# Altium footprint library shared_lib.PcbLib: 46 footprints (part 3 of 3)
Each footprint in its own frame and in the unit in brackets; x right, y up, seen from the top. Pads: shape width x height; smd on the part's side, far side on the other; paste and mask are expansions set on the pad; w line width, h text height; cw(c..) or ccw(c..) is an arc to the next point about the centre after c.
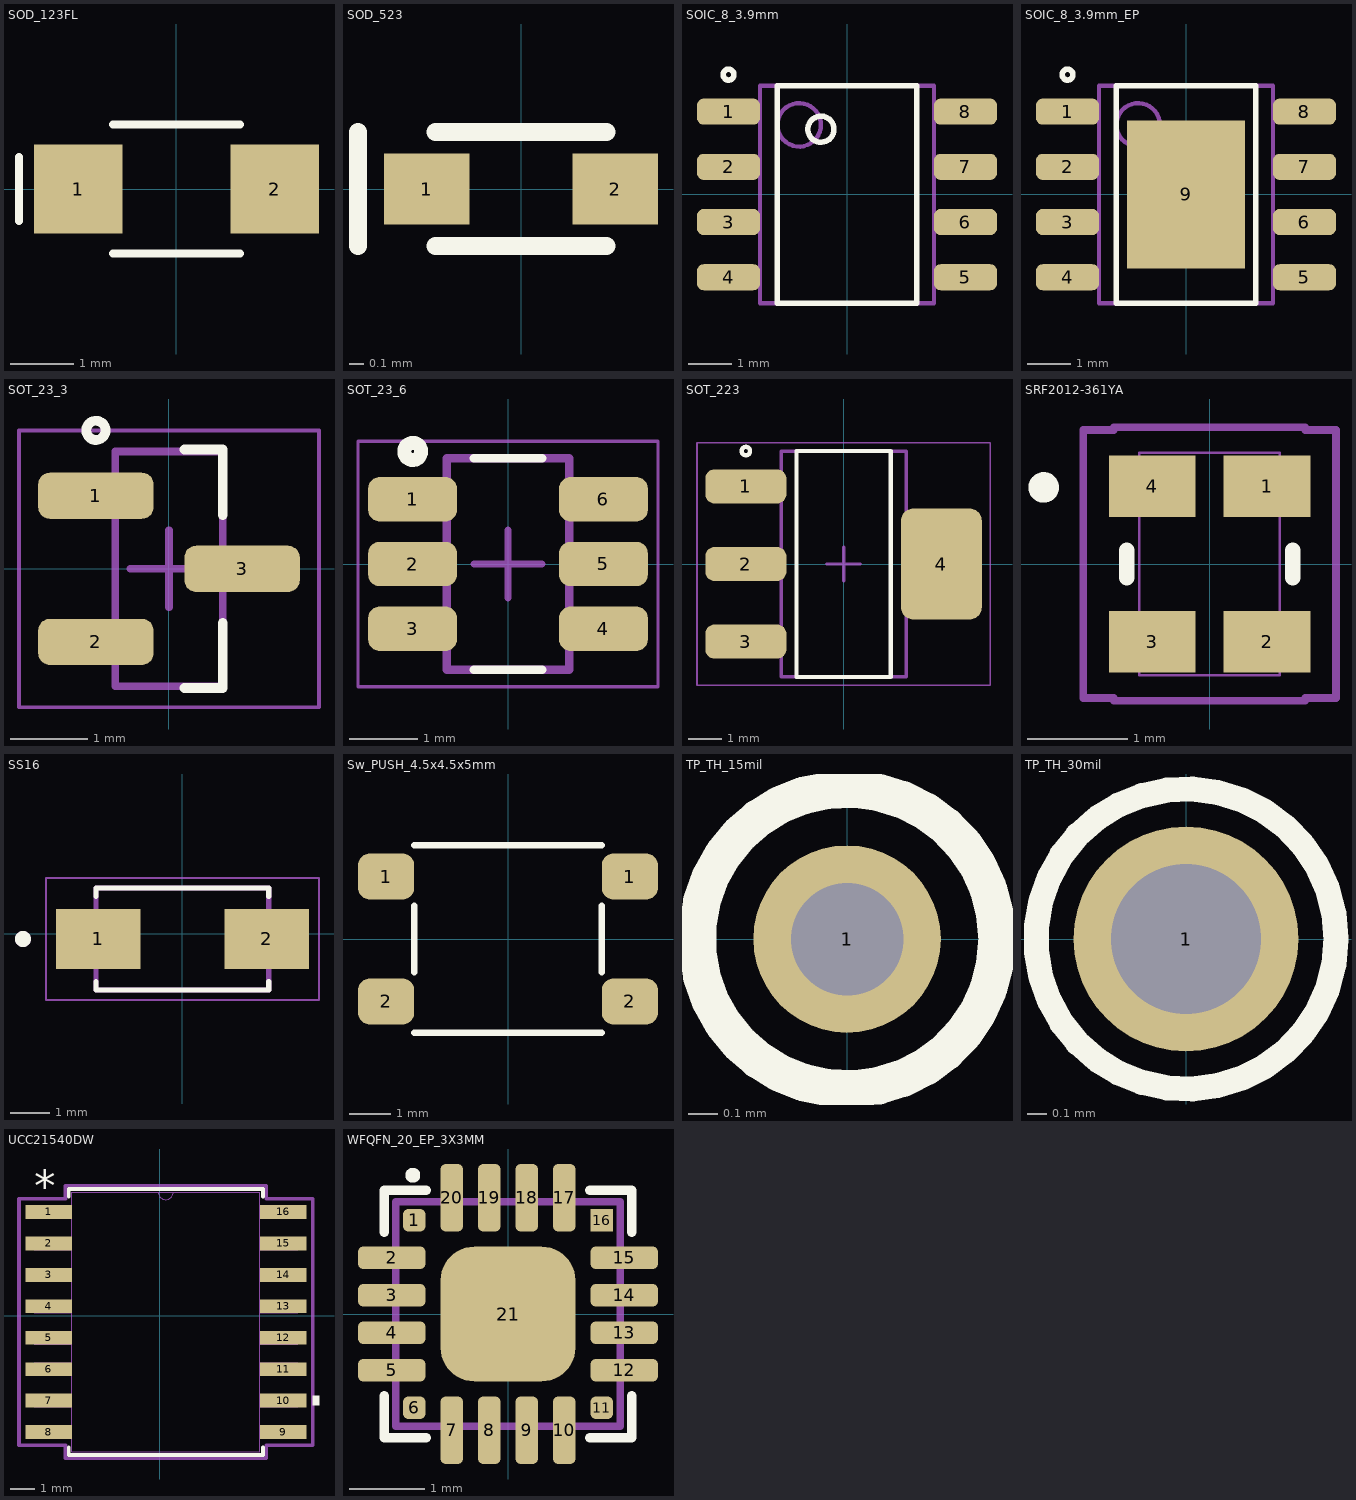
[diagram p2: the footprints below, top view; thin cyan lines are the x and y axes]

## SOD_123FL [mm]
pads (2):
  rect 1.4x1.4 smd: 1(-1.55,0) 2(1.55,0)
Top Overlay:
  lines w0.127: -2.486,-0.508 -2.486,0.508 ; -1,-1.016 1,-1.016 ; -1,1.016 1,1.016
3D body "SOD-123F_LTF.step": height 1.09, standoff 0, extent -1.956,-1.003 1.956,1.003

## SOD_523 [mm]
pads (2):
  rect 0.6x0.5 smd: 1(-0.66,0) 2(0.66,0)
Top Overlay:
  lines w0.127: -1.143,-0.4 -1.143,0.4 ; -0.6,-0.4 0.6,-0.4 ; -0.6,0.4 0.6,0.4
3D body: height 0.6, standoff 0, extent -0.6,-0.4 0.6,0.4

## SOIC_8_3.9mm [mm]
pads (8):
  rrect50% 1.45x0.6 smd: 1(-2.725,1.905) 2(-2.725,0.635) 3(-2.725,-0.635) 4(-2.725,-1.905) 5(2.725,-1.905) 6(2.725,-0.635) 7(2.725,0.635) 8(2.725,1.905)
Top Overlay:
  circle w0.127: c-0.6,1.5 r0.3
  circle w0.127: c-2.725,2.755 r0.125
  lines w0.127: -1.6,-2.5 1.6,-2.5 1.6,2.5 -1.6,2.5 -1.6,-2.5
Mechanical 1:
  circle w0.1: c-1.1,1.6 r0.5
  lines w0.1: -2,-2.5 -2,2.5 2,2.5 2,-2.5 -2,-2.5
3D body "SOIC127P600X173-8N.step": height 1.73, standoff 0, extent -3.01,-2.5 3.01,2.5

## SOIC_8_3.9mm_EP [mm]
pads (9):
  rrect50% 1.45x0.6 smd: 1(-2.725,1.905) 2(-2.725,0.635) 3(-2.725,-0.635) 4(-2.725,-1.905) 5(2.725,-1.905) 6(2.725,-0.635) 7(2.725,0.635) 8(2.725,1.905)
  rect 2.71x3.4 smd: 9(0,0)
Top Overlay:
  circle w0.127: c-2.725,2.755 r0.125
  lines w0.127: -1.6,-2.5 -1.6,2.5 1.6,2.5 1.6,-2.5 -1.6,-2.5
Mechanical 1:
  circle w0.1: c-1.1,1.6 r0.5
  lines w0.1: -2,-2.5 2,-2.5 2,2.5 -2,2.5 -2,-2.5
3D body "step_temp.STEP": height 1.7, standoff 0, extent -3,-2.45 3,2.45

## SOT_23_3 [mm]
pads (3):
  rrect50% 1.5x0.6 smd: 1(-0.95,0.95) 2(-0.95,-0.95) 3(0.95,0)
Top Overlay:
  circle w0.127: c-0.95,1.8 r0.125
  lines w0.127: 0.2,-1.55 0.7,-1.55 0.7,-0.7 ; 0.2,1.55 0.7,1.55 0.7,0.7
Mechanical 1:
  lines w0.1: -0.7,-1.525 -0.7,1.525 0.7,1.525 0.7,-1.525 -0.7,-1.525
Mechanical 15:
  lines w0.05: -1.95,-1.8 1.95,-1.8 1.95,1.8 -1.95,1.8 -1.95,-1.8
  lines w0.1: -0.5,0 0.5,0 ; 0,-0.5 0,0.5
3D body: height 1.12, standoff 0.01, extent -0.7,-1.525 0.7,1.525

## SOT_23_6 [mm]
height 1.45
pads (6):
  rrect50% 1.3x0.65 smd: 1(-1.4,0.95) 2(-1.4,0) 3(-1.4,-0.95) 4(1.4,-0.95) 5(1.4,0) 6(1.4,0.95)
Top Overlay:
  circle w0.203: c-1.397,1.651 r0.125
  lines w0.127: -0.5,-1.55 0.5,-1.55 ; -0.5,1.55 0.5,1.55
Mechanical 1:
  lines w0.127: -0.9,-1.55 0.9,-1.55 0.9,1.55 -0.9,1.55 -0.9,-1.55
Mechanical 15:
  lines w0.05: -2.2,-1.8 -2.2,1.8 2.2,1.8 2.2,-1.8 -2.2,-1.8
  lines w0.1: -0.5,0 0.5,0 ; 0,-0.5 0,0.5
3D body "SOT23-6-2.step": height 1.45, standoff 0, extent -1.501,-1.45 1.299,1.45

## SOT_223 [mm]
height 1.45
pads (4):
  rrect50% 2.4x1 smd: 1(-2.9,2.3) 2(-2.9,0) 3(-2.9,-2.3)
  rrect30% 2.4x3.3 smd: 4(2.9,0)
Top Overlay:
  circle w0.127: c-2.9,3.35 r0.125
  lines w0.127: -1.4,-3.35 -1.4,3.35 1.4,3.35 1.4,-3.35 -1.4,-3.35
Mechanical 1:
  lines w0.1: -1.855,-3.35 -1.855,3.35 1.855,3.35 1.855,-3.35 -1.855,-3.35
Mechanical 15:
  lines w0.05: -4.35,-3.6 -4.35,3.6 4.35,3.6 4.35,-3.6 -4.35,-3.6
  lines w0.1: -0.5,0 0.5,0 ; 0,-0.5 0,0.5
3D body: height 1.8, standoff 0.03, extent -1.855,-3.35 1.855,3.35

## SRF2012-361YA [mil]
pads (4):
  rect 34x24 smd paste+0 mask+0: 1(22.5,30.5) 2(22.5,-30.5) 3(-22.5,-30.5) 4(-22.5,30.5)
Top Overlay:
  circle w6: c-65,30 r3
  lines w6: -32.5,-5.4 -32.5,5.4 ; 32.5,-5.4 32.5,5.4
Mechanical 13:
  lines w1: -27.5,-43.5 -27.5,43.5 27.5,43.5 27.5,-43.5 -27.5,-43.5
Mechanical 15:
  lines w3: -49.5,-52.5 -37.5,-52.5 -37.5,-53.5 37.5,-53.5 37.5,-52.5 49.5,-52.5 49.5,52.5 37.5,52.5 37.5,53.5 -37.5,53.5 -37.5,52.5 -49.5,52.5 -49.5,-52.5
3D body "IND_BOURNS_SRF2012A.step": height 55.12, standoff 0, extent -27.52,-43.5 27.52,43.5

## SS16 [mm]
pads (2):
  rect 2.12x1.5 smd: 1(-2.115,-0.127) 2(2.115,-0.127)
Top Overlay:
  circle w0.2: c-4,-0.127 r0.1
  lines w0.127: -2.165,-1.197 -2.165,-1.407 2.165,-1.407 2.165,-1.197 ; -2.165,0.943 -2.165,1.153 2.165,1.153 2.165,0.943
Mechanical 13:
  circle w0.2: c-4,-0.127 r0.1
  lines w0.127: -2.165,-1.407 2.165,-1.407 2.165,1.153 -2.165,1.153 -2.165,-1.407
Mechanical 15:
  lines w0.05: -3.425,-1.657 3.425,-1.657 3.425,1.403 -3.425,1.403 -3.425,-1.657
3D body "step_temp.STEP": height 2.5, standoff 0, extent -2.57,-1.407 2.57,1.153

## Sw_PUSH_4.5x4.5x5mm [mm]
pads (4):
  rrect50% 1.35x1.1 smd: 1(-2.925,1.5) 1(2.925,1.5) 2(-2.925,-1.5) 2(2.925,-1.5)
Top Overlay:
  lines w0.152: -2.25,-2.25 2.25,-2.25 ; -2.25,-0.8 -2.25,0.8 ; -2.25,2.25 2.25,2.25 ; 2.25,-0.8 2.25,0.8
3D body: height 5, standoff 0, extent -1.22,-1.22 1.22,1.22
3D body: height 2.75, standoff 0, extent -2.25,-2.25 2.25,2.25

## TP_TH_15mil [mil]
pads (1):
  round 25 hole 15: 1(0,0)
Top Overlay:
  circle w5: c0,0 r20
Bottom Overlay:
  circle w5: c0,0 r20

## TP_TH_30mil [mil]
pads (1):
  round 45 hole 30: 1(0,0)
Top Overlay:
  circle w5: c0,0 r30
Bottom Overlay:
  circle w5: c0,0 r30

## UCC21540DW [mil]
pads (16):
  rect 74x22 smd paste+0 mask+0: 1(-176.5,165) 2(-176.5,115) 3(-176.5,65) 4(-176.5,15) 5(-176.5,-35) 6(-176.5,-85) 7(-176.5,-135) 8(-176.5,-185) 9(196.5,-185) 10(196.5,-135) 11(196.5,-85) 12(196.5,-35) 13(196.5,15) 14(196.5,65) 15(196.5,115) 16(196.5,165)
Top Overlay:
  region: 243.5,-127.5 253.5,-127.5 253.5,-142.5 243.5,-142.5
  lines w6: -144.5,-209.1 -144.5,-221.5 164.5,-221.5 164.5,-209.1 ; -144.5,189.1 -144.5,201.5 164.5,201.5 164.5,189.1
  text "*" at -199,182 h50
Mechanical 13:
  lines w1: -2,196.5 ccw(c10,196.5) 22,196.5 ; -199.5,-195 -199.5,-175 -139.5,-175 -139.5,-195 -199.5,-195 ; -199.5,-145 -199.5,-125 -139.5,-125 -139.5,-145 -199.5,-145 ; -199.5,-95 -199.5,-75 -139.5,-75 -139.5,-95 -199.5,-95 ; -199.5,-45 -199.5,-25 -139.5,-25 -139.5,-45 -199.5,-45 ; -199.5,5 -199.5,25 -139.5,25 -139.5,5 -199.5,5 ; -199.5,55 -199.5,75 -139.5,75 -139.5,55 -199.5,55 ; -199.5,105 -199.5,125 -139.5,125 -139.5,105 -199.5,105 ; -199.5,155 -199.5,175 -139.5,175 -139.5,155 -199.5,155 ; -139.5,-216.5 159.5,-216.5 159.5,196.5 -139.5,196.5 -139.5,-216.5 ; 159.5,-195 159.5,-175 219.5,-175 219.5,-195 159.5,-195 ; 159.5,-145 159.5,-125 219.5,-125 219.5,-145 159.5,-145 ; 159.5,-95 159.5,-75 219.5,-75 219.5,-95 159.5,-95 ; 159.5,-45 159.5,-25 219.5,-25 219.5,-45 159.5,-45 ; 159.5,5 159.5,25 219.5,25 219.5,5 159.5,5 ; 159.5,55 159.5,75 219.5,75 219.5,55 159.5,55 ; 159.5,105 159.5,125 219.5,125 219.5,105 159.5,105 ; 159.5,155 159.5,175 219.5,175 219.5,155 159.5,155
Mechanical 15:
  lines w6: -223.5,-206 -223.5,186 -149.5,186 -149.5,206.5 169.5,206.5 169.5,186 243.5,186 243.5,-206 169.5,-206 169.5,-226.5 -149.5,-226.5 -149.5,-206 -223.5,-206
3D body "DW16_TEX.step": height 104.09, standoff 0, extent -199.56,-216.32 219.41,196.68

## WFQFN_20_EP_3X3MM [mm]
pads (21):
  rrect50% 0.3x0.3 smd: 1(-1.25,1.25) 6(-1.25,-1.25) 11(1.25,-1.25)
  rrect50% 0.9x0.3 smd: 2(-1.55,0.75) 3(-1.55,0.25) 4(-1.55,-0.25) 5(-1.55,-0.75) 12(1.55,-0.75) 13(1.55,-0.25) 14(1.55,0.25) 15(1.55,0.75)
  rrect50% 0.3x0.9 smd: 7(-0.75,-1.55) 8(-0.25,-1.55) 9(0.25,-1.55) 10(0.75,-1.55) 17(0.75,1.55) 18(0.25,1.55) 19(-0.25,1.55) 20(-0.75,1.55)
  rect 0.3x0.3 smd: 16(1.25,1.25)
  rrect50% 1.8x1.8 smd: 21(0,0)
Top Overlay:
  circle w0.1: c-1.27,1.85 r0.05
  lines w0.127: -1.65,-1.092 -1.65,-1.65 -1.092,-1.65 ; -1.65,1.092 -1.65,1.65 -1.092,1.65 ; 1.092,-1.65 1.65,-1.65 1.65,-1.092 ; 1.092,1.65 1.65,1.65 1.65,1.092
Mechanical 1:
  lines w0.1: -1.5,-1.5 -1.5,1.5 1.5,1.5 1.5,-1.5 -1.5,-1.5
3D body: height 0.8, standoff 0, extent -1.5,-1.5 1.5,1.5